# Altium footprint library 封装库.PCBLIB: 282 footprints (part 14 of 18)
Each footprint in its own frame and in the unit in brackets; x right, y up, seen from the top. Pads: shape width x height; smd on the part's side, far side on the other; paste and mask are expansions set on the pad; w line width, h text height; cw(c..) or ccw(c..) is an arc to the next point about the centre after c.
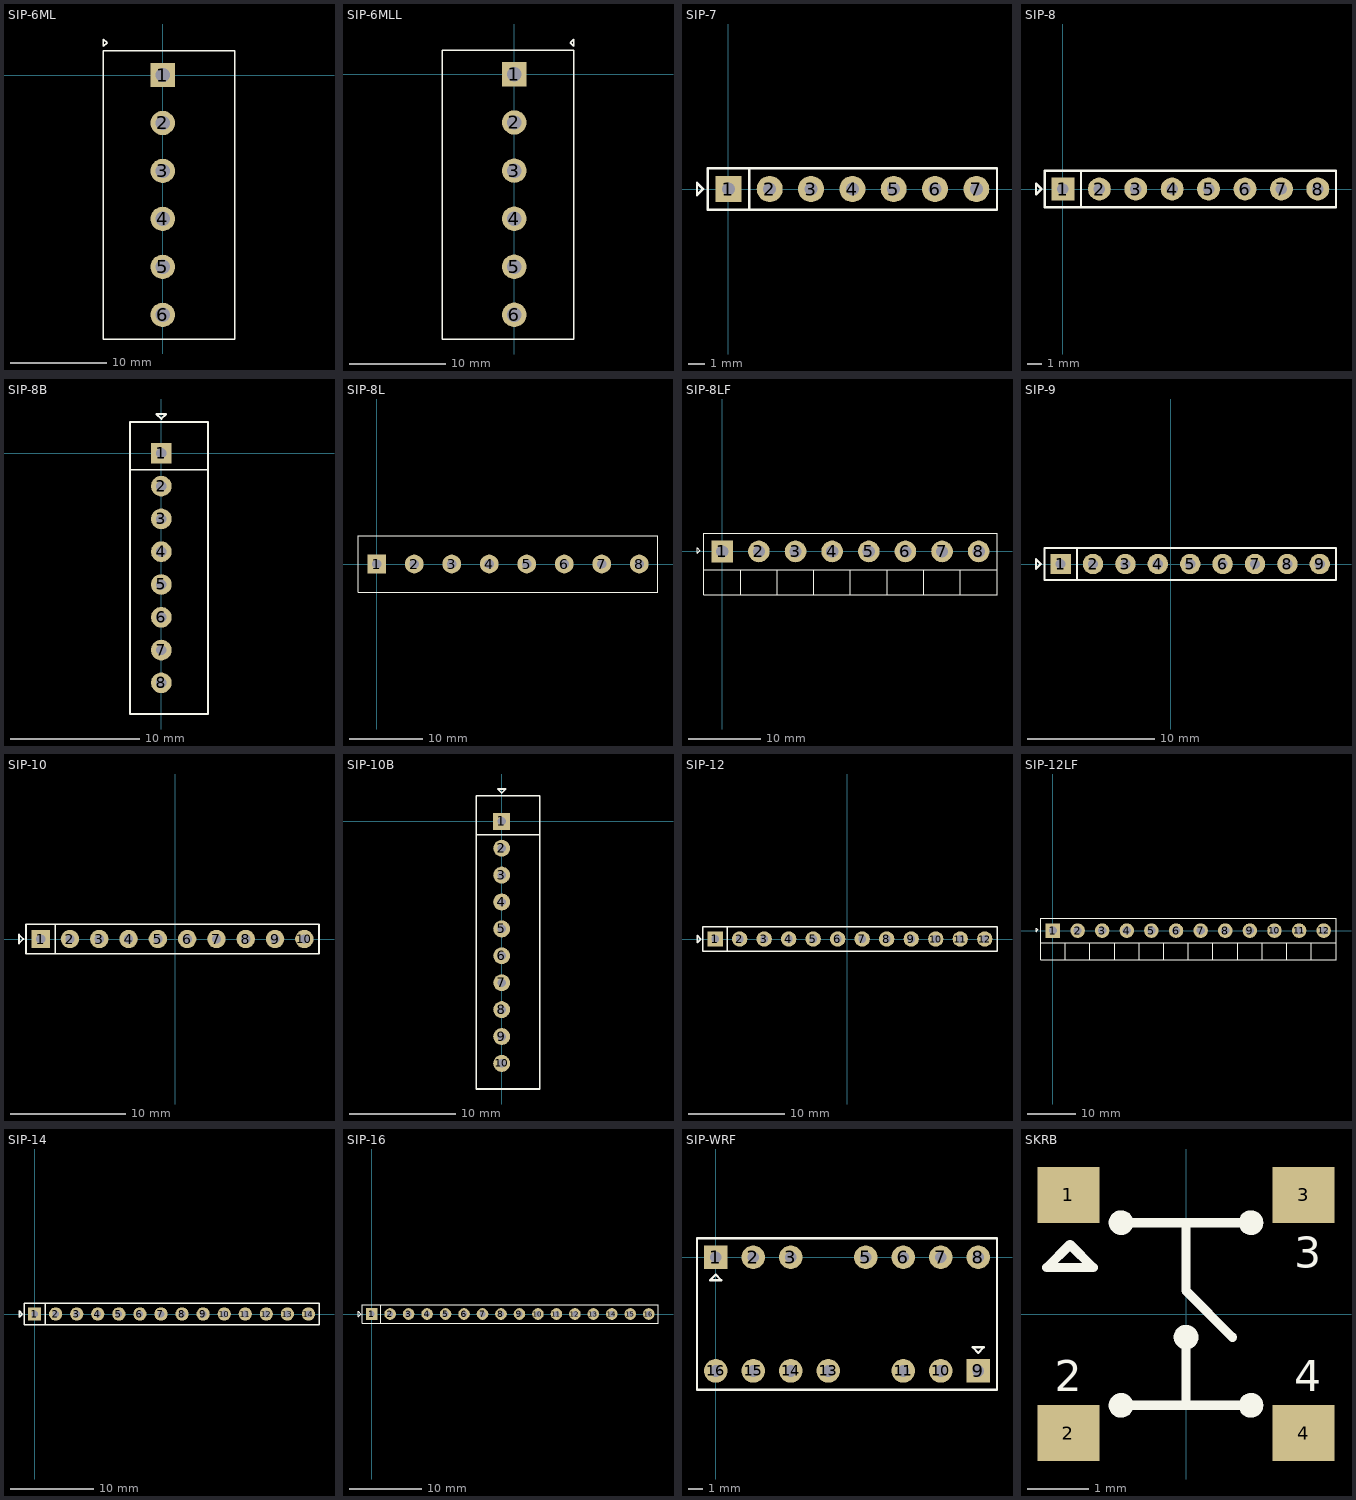
[diagram p13: the footprints below, top view; thin cyan lines are the x and y axes]

## SIP-6ML [mm] "5.00mm,KF-128V,KF-103"
pads (6):
  rect 2.54x2.54 hole 1.5: 1(0,0)
  round 2.54 hole 1.5: 2(0,-5) 3(0,-10) 4(0,-15) 5(0,-20) 6(0,-25)
TopOverlay:
  lines w0.152: -6.187,-17.511 -6.187,-6.477 ; -6.187,-16.485 -6.187,-27.518 7.5,-27.518 7.5,-16.485 ; -6.187,-7.489 -6.187,2.511 7.5,2.511 7.5,-7.489 ; 7.5,-17.511 7.5,-6.477 ; -6.172,2.993 -5.791,3.374 -6.172,3.755 -6.172,2.993

## SIP-6MLL [mm] "5.00mm,KF-128V,KF-103"
pads (6):
  rect 2.54x2.54 hole 1.5: 1(0,0)
  round 2.54 hole 1.5: 2(0,-5) 3(0,-10) 4(0,-15) 5(0,-20) 6(0,-25)
TopOverlay:
  lines w0.152: -7.5,-18.523 -7.5,-7.489 ; -7.5,-17.511 -7.5,-27.511 6.187,-27.511 6.187,-17.511 ; -7.5,-8.515 -7.5,2.518 6.187,2.518 6.187,-8.515 ; 6.187,-18.523 6.187,-7.489 ; 5.791,3.299 6.172,3.68 6.172,2.918 5.791,3.299

## SIP-7 [mm] "PIN Header Single Row,2.54mm"
pads (7):
  rect 1.6x1.6 hole 0.8: 1(0,0)
  round 1.6 hole 0.8: 2(2.54,0) 3(5.08,0) 4(7.62,0) 5(10.16,0) 6(12.7,0) 7(15.24,0)
TopOverlay:
  lines w0.152: 1.27,-1.27 1.27,1.27 ; -1.93,-0.381 -1.549,0 -1.93,0.381 -1.93,-0.381 ; -1.27,-1.27 16.51,-1.27 16.51,1.27 -1.27,1.27 -1.27,-1.27

## SIP-8 [mm] "PIN Header Single Row,2.54mm"
pads (8):
  rect 1.6x1.6 hole 0.8: 1(0,0)
  round 1.6 hole 0.8: 2(2.54,0) 3(5.08,0) 4(7.62,0) 5(10.16,0) 6(12.7,0) 7(15.24,0) 8(17.78,0)
TopOverlay:
  lines w0.152: 1.27,-1.27 1.27,1.27 ; -1.88,-0.381 -1.88,0.381 -1.499,0 -1.88,-0.381 ; -1.27,-1.27 19.05,-1.27 19.05,1.27 -1.27,1.27 -1.27,-1.27

## SIP-8B [mm] "2.54mm,SIP,space"
pads (8):
  rect 1.6x1.6 hole 0.8: 1(0,0)
  round 1.6 hole 0.8: 2(0,-2.54) 3(0,-5.08) 4(0,-7.62) 5(0,-10.16) 6(0,-12.7) 7(0,-15.24) 8(0,-17.78)
TopOverlay:
  lines w0.152: -2.413,-1.27 3.607,-1.27 ; -2.413,-20.193 3.607,-20.193 3.607,2.413 -2.413,2.413 -2.413,-20.193 ; -0.381,3.048 0,2.667 0.381,3.048 -0.381,3.048

## SIP-8L [mm]
pads (8):
  rect 2.54x2.54 hole 1.27: 1(0,0)
  round 2.54 hole 1.27: 2(5.08,0) 3(10.16,0) 4(15.24,0) 5(20.32,0) 6(25.4,0) 7(30.48,0) 8(35.56,0)
TopOverlay:
  lines w0.152: 25.4,-3.81 27.915,-3.81 38.1,-3.81 ; 25.654,3.81 27.915,3.81 ; 25.933,3.81 38.1,3.81 38.1,-3.785 ; 26.06,3.81 -2.54,3.81 -2.54,-3.81 26.365,-3.81

## SIP-8LF [mm] "5.08mm,flex,KF158R-08P6GR"
pads (8):
  rect 3x3 hole 1.7: 1(0,0)
  round 3 hole 1.7: 2(5.08,0) 3(10.16,0) 4(15.24,0) 5(20.32,0) 6(25.4,0) 7(30.48,0) 8(35.56,0)
TopOverlay:
  lines w0.152: -2.54,-2.54 38.1,-2.54 38.1,-6.02 -2.54,-6.02 -2.54,2.54 38.1,2.54 38.1,-3.175 ; -2.184,2.54 0,2.54 ; -1.422,-2.54 0,-2.54 ; 2.54,-6.02 2.54,-2.54 ; 7.62,-6.02 7.62,-2.54 ; 12.7,-6.02 12.7,-2.54 ; 17.78,-6.02 17.78,-2.54 ; 27.94,-6.02 27.94,-2.54 ; 33.02,-6.02 33.02,-2.54 ; -3.505,-0.254 -3.505,0.508 -3.124,0.127 -3.505,-0.254 ; 22.86,-6.02 22.86,-2.54 22.86,-6.02

## SIP-9 [mm] "PIN Header Single Row,2.54mm"
pads (9):
  rect 1.6x1.6 hole 0.8: 1(-8.636,0)
  round 1.6 hole 0.8: 2(-6.096,0) 3(-3.556,0) 4(-1.016,0) 5(1.524,0) 6(4.064,0) 7(6.604,0) 8(9.144,0) 9(11.684,0)
TopOverlay:
  lines w0.152: -7.366,-1.27 -7.366,1.27 ; -10.566,-0.381 -10.185,0 -10.566,0.381 -10.566,-0.381 ; -9.906,-1.27 12.954,-1.27 12.954,1.27 -9.906,1.27 -9.906,-1.27

## SIP-10 [mm] "PIN Header Single Row,2.54mm"
pads (10):
  rect 1.6x1.6 hole 0.8: 1(-11.684,0)
  round 1.6 hole 0.8: 2(-9.144,0) 3(-6.604,0) 4(-4.064,0) 5(-1.524,0) 6(1.016,0) 7(3.556,0) 8(6.096,0) 9(8.636,0) 10(11.176,0)
TopOverlay:
  lines w0.152: -10.414,-1.27 -10.414,1.27 ; -13.564,-0.381 -13.564,0.381 -13.183,0 -13.564,-0.381 ; -12.954,-1.27 12.446,-1.27 12.446,1.27 -12.954,1.27 -12.954,-1.27

## SIP-10B [mm] "2.54mm,SIP,space"
pads (10):
  rect 1.6x1.6 hole 0.8: 1(0,0)
  round 1.6 hole 0.8: 2(0,-2.54) 3(0,-5.08) 4(0,-7.62) 5(0,-10.16) 6(0,-12.7) 7(0,-15.24) 8(0,-17.78) 9(0,-20.32) 10(0,-22.86)
TopOverlay:
  lines w0.152: -2.413,-1.27 3.607,-1.27 ; -2.413,-25.273 -2.413,2.413 3.607,2.413 3.607,-25.273 -2.413,-25.273 ; -0.381,3.048 0.381,3.048 0,2.667 -0.381,3.048

## SIP-12 [mm] "PIN Header Single Row,2.54mm"
pads (12):
  rect 1.6x1.6 hole 0.8: 1(-13.716,0)
  round 1.6 hole 0.8: 2(-11.176,0) 3(-8.636,0) 4(-6.096,0) 5(-3.556,0) 6(-1.016,0) 7(1.524,0) 8(4.064,0) 9(6.604,0) 10(9.144,0) 11(11.684,0) 12(14.224,0)
TopOverlay:
  lines w0.152: -12.446,-1.27 -12.446,1.27 ; -15.596,-0.381 -15.596,0.381 -15.215,0 -15.596,-0.381 ; -14.986,-1.27 15.494,-1.27 15.494,1.27 -14.986,1.27 -14.986,-1.27

## SIP-12LF [mm] "5.08mm,flex"
pads (12):
  rect 3x3 hole 1.7: 1(0,0)
  round 3 hole 1.7: 2(5.08,0) 3(10.16,0) 4(15.24,0) 5(20.32,0) 6(25.4,0) 7(30.48,0) 8(35.56,0) 9(40.64,0) 10(45.72,0) 11(50.8,0) 12(55.88,0)
TopOverlay:
  lines w0.152: -2.54,-2.54 27.94,-2.54 ; -2.184,2.54 0,2.54 ; -1.422,-2.54 0,-2.54 ; 2.54,-6.02 2.54,-2.54 ; 7.62,-6.02 7.62,-2.54 ; 12.7,-6.02 12.7,-2.54 ; 17.78,-6.02 17.78,-2.54 ; 22.86,-6.02 22.86,-2.54 ; 28.296,2.54 30.48,2.54 ; 29.058,-2.54 30.48,-2.54 ; 33.02,-6.02 33.02,-2.54 ; 38.1,-6.02 38.1,-2.54 ; 43.18,-6.02 43.18,-2.54 ; 48.26,-6.02 48.26,-2.54 ; 53.34,-6.02 53.34,-2.54 ; 58.42,-2.54 27.94,-2.54 ; 27.94,-6.02 27.94,-2.54 ; 27.94,-6.02 58.42,-6.02 58.42,2.54 27.94,2.54 -2.54,2.54 -2.54,-6.02 27.94,-6.02 ; -3.505,-0.254 -3.505,0.508 -3.124,0.127 -3.505,-0.254

## SIP-14 [mm] "PIN Header Single Row,2.54mm"
pads (14):
  rect 1.6x1.6 hole 0.8: 1(0,0)
  round 1.6 hole 0.8: 2(2.54,0) 3(5.08,0) 4(7.62,0) 5(10.16,0) 6(12.7,0) 7(15.24,0) 8(17.78,0) 9(20.32,0) 10(22.86,0) 11(25.4,0) 12(27.94,0) 13(30.48,0) 14(33.02,0)
TopOverlay:
  lines w0.152: 1.27,-1.27 1.27,1.27 ; -1.88,-0.381 -1.88,0.381 -1.499,0 -1.88,-0.381 ; -1.27,-1.27 -1.27,1.27 34.29,1.27 34.29,-1.27 -1.27,-1.27

## SIP-16 [mm] "PIN Header Single Row,2.54mm"
pads (16):
  rect 1.6x1.6 hole 0.8: 1(0,0)
  round 1.6 hole 0.8: 2(2.54,0) 3(5.08,0) 4(7.62,0) 5(10.16,0) 6(12.7,0) 7(15.24,0) 8(17.78,0) 9(20.32,0) 10(22.86,0) 11(25.4,0) 12(27.94,0) 13(30.48,0) 14(33.02,0) 15(35.56,0) 16(38.1,0)
TopOverlay:
  lines w0.152: 1.27,-1.27 1.27,1.27 ; -1.88,-0.381 -1.88,0.381 -1.499,0 -1.88,-0.381 ; -1.27,-1.27 -1.27,1.27 39.37,1.27 39.37,-1.27 -1.27,-1.27

## SIP-WRF [mm]
pads (14):
  rect 1.6x1.6 hole 0.8: 1(0,0) 9(17.78,-7.696)
  round 1.6 hole 0.8: 2(2.54,0) 3(5.08,0) 5(10.16,0) 6(12.7,0) 7(15.24,0) 8(17.78,0) 10(15.24,-7.696) 11(12.7,-7.696) 13(7.62,-7.696) 14(5.08,-7.696) 15(2.54,-7.696) 16(0,-7.696)
TopOverlay:
  lines w0.152: -1.268,-8.966 19.05,-8.966 19.05,1.282 -1.268,1.282 -1.268,-8.966 ; -0.381,-1.549 0,-1.168 0.381,-1.549 -0.381,-1.549 ; 17.399,-6.096 18.161,-6.096 17.78,-6.477 17.399,-6.096

## SKRB [mil] "0ALPS,0.55 mm,Switch"
pads (4):
  rect 40x36 smd: 1(-76,77) 2(-76,-77) 3(76,77) 4(76,-77)
TopOverlay:
  circle w6: c42,-59.06 r5
  circle w6: c-42,-59.06 r5
  circle w6: c42,59.06 r5
  circle w6: c-42,59.06 r5
  circle w6: c0,-15 r5
  lines w6: -45,-59.06 0,-59.06 ; -45,59.06 0,59.06 ; 0,-15 0,-59.06 ; 30,-15 0,15 0,59.06 ; 45,-59.06 0,-59.06 ; 45,59.06 0,59.06 ; -90,30 -60,30 -75,45 -90,30
  text "2" at -85,-50 h20
  text "4" at 70,-50 h20
  text "3" at 70,30 h20